# Altium footprint library 870055673001.PcbLib: 1 footprints
Each footprint in its own frame and in the unit in brackets; x right, y up, seen from the top. Pads: shape width x height; smd on the part's side, far side on the other; paste and mask are expansions set on the pad; w line width, h text height; cw(c..) or ccw(c..) is an arc to the next point about the centre after c.
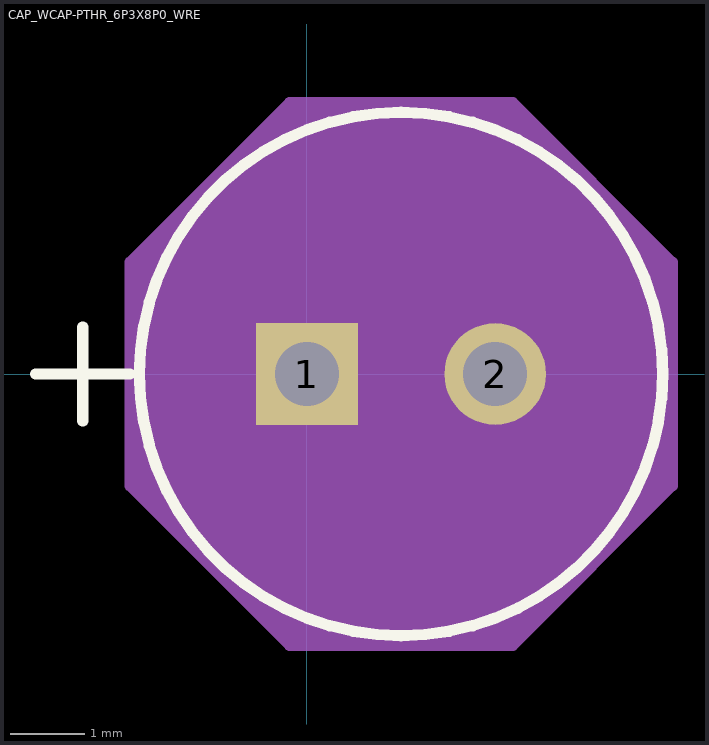
[diagram p0: the footprint, top view; thin cyan lines are the x and y axes]

## CAP_WCAP-PTHR_6P3X8P0_WRE [mil]
pads (2):
  rect 54x54 / inner round 60 / far side rect 54x54 hole 34 paste-27 mask+0: 1(0,0)
  round 54 / inner round 60 / far side round 54 hole 34 paste-27 mask+0: 2(100,0)
Top Overlay:
  circle w6: c50,0 r139
  lines w6: -144,0 -94,0 ; -119,-25 -119,25
Mechanical 13:
  circle w0: c50,0 r134
  lines w1: -144,0 -94,0 ; -119,-25 -119,25
Mechanical 15:
  region: -94,59.29 -9.29,144 109.29,144 194,59.29 194,-59.29 109.29,-144 -9.29,-144 -94,-59.29
  lines w6: -94,-59.29 -9.29,-144 109.29,-144 194,-59.29 194,59.29 109.29,144 -9.29,144 -94,59.29 -94,-59.29
3D body "CAP_WCAP-PTHR_6P3X8P0_WRE.step": height 374.61, standoff -172.01, extent -84.02,-133.88 185.11,133.88